# Altium footprint library E-component.PcbLib: 39 footprints (part 2 of 3)
Each footprint in its own frame and in the unit in brackets; x right, y up, seen from the top. Pads: shape width x height; smd on the part's side, far side on the other; paste and mask are expansions set on the pad; w line width, h text height; cw(c..) or ccw(c..) is an arc to the next point about the centre after c.
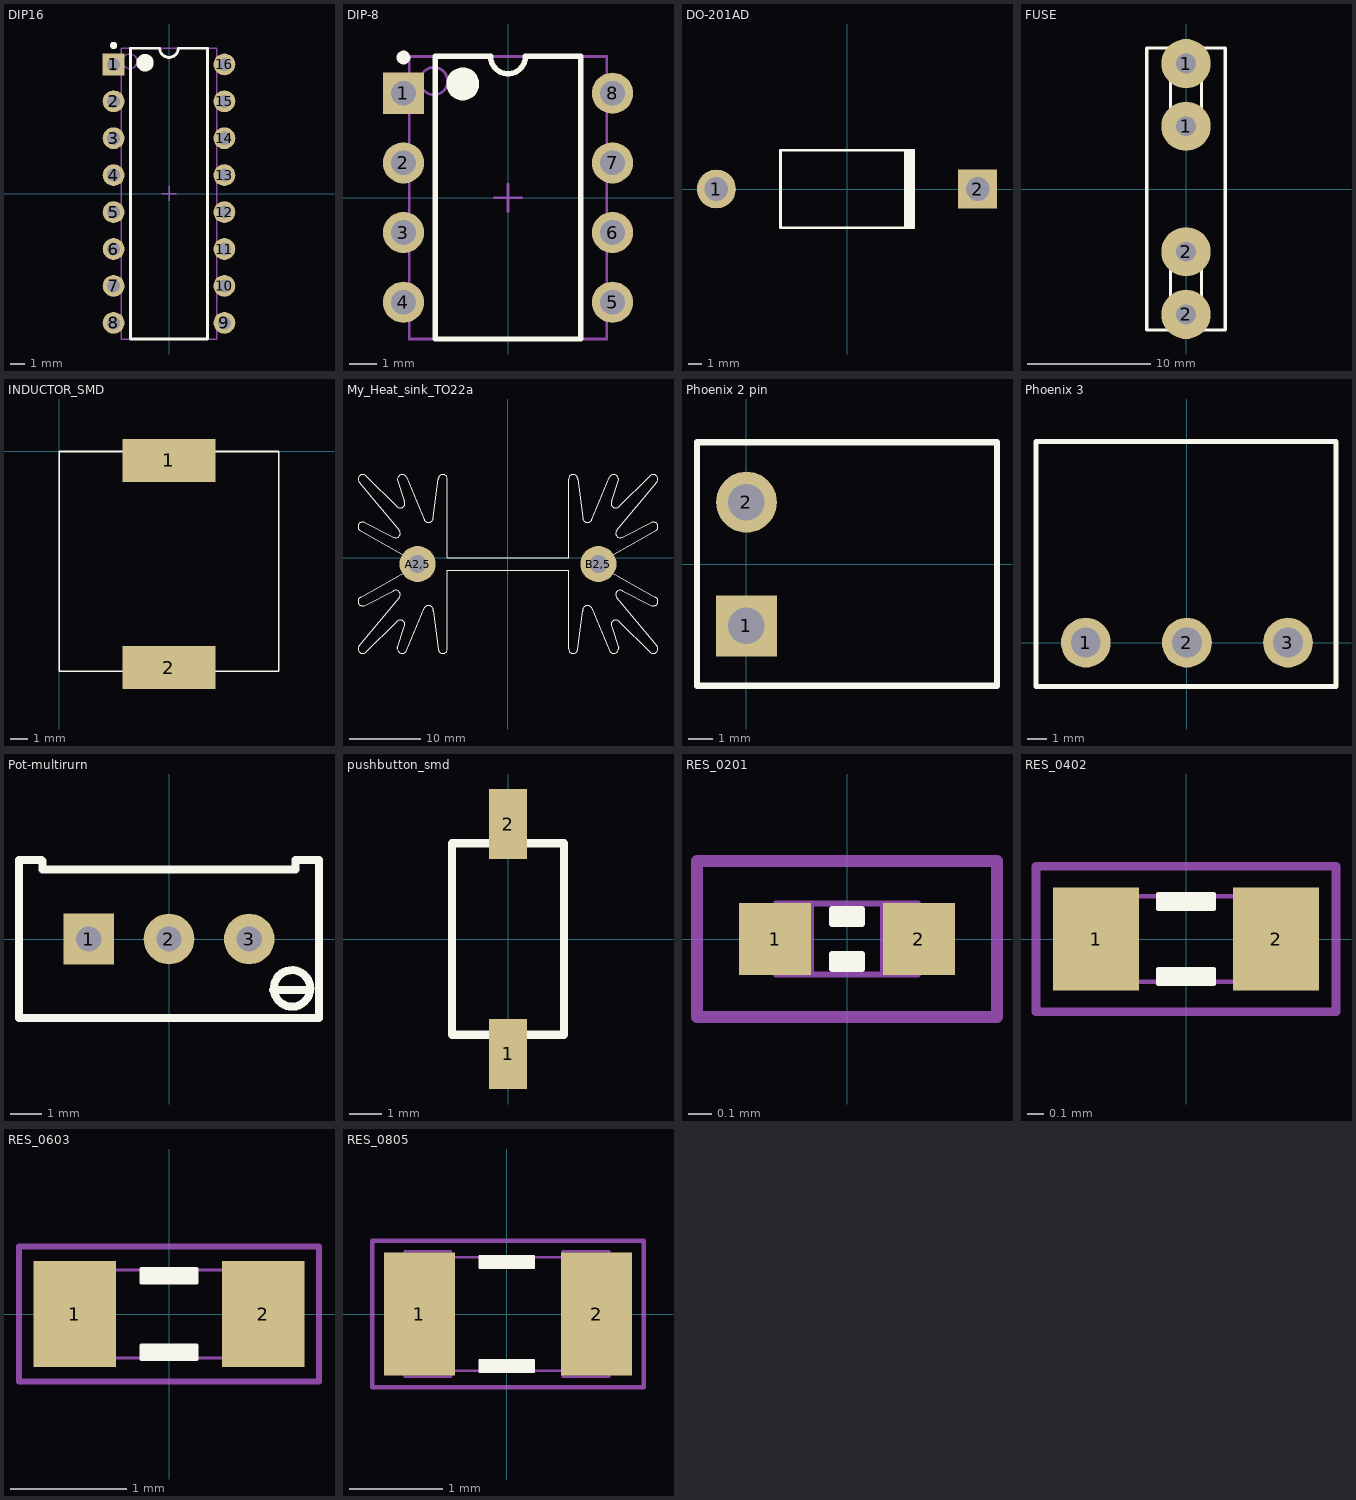
[diagram p1: the footprints below, top view; thin cyan lines are the x and y axes]

## DIP16 [mm] "DIP, 16-Leads, Row Spacing 7.62mm, Pitch 2.54mm, Body 19.6x6.3mm"
height 4.8
pads (16):
  rect 1.5x1.5 hole 0.9: 1(-3.81,8.89)
  round 1.5 hole 0.9: 2(-3.81,6.35) 3(-3.81,3.81) 4(-3.81,1.27) 5(-3.81,-1.27) 6(-3.81,-3.81) 7(-3.81,-6.35) 8(-3.81,-8.89) 9(3.81,-8.89) 10(3.81,-6.35) 11(3.81,-3.81) 12(3.81,-1.27) 13(3.81,1.27) 14(3.81,3.81) 15(3.81,6.35) 16(3.81,8.89)
Top Overlay:
  circle w0.6: c-1.65,9 r0.3
  circle w0.25: c-3.81,10.19 r0.125
  lines w0.2: -2.65,-10 2.65,-10 2.65,10 0.635,10 cw(c0,10) -0.635,10 -2.65,10 -2.65,-10
Mechanical 13:
  circle w0.1: c-2.7,9.1 r0.5
  lines w0.1: -3.3,-10 3.3,-10 3.3,10 -3.3,10 -3.3,-10
Mechanical 15:
  lines w0.1: -0.5,0 0.5,0 ; 0,-0.5 0,0.5
3D body: height 4.8, standoff 0.5, extent -3.299,-9.999 3.299,9.999

## DIP-8 [mm] "DIP; 8 Leads; Row Spacing 7.62 mm; Pitch 2.54 mm"
height 5.08
pads (8):
  rect 1.5x1.5 hole 0.9: 1(-3.81,3.81)
  round 1.5 hole 0.9: 2(-3.81,1.27) 3(-3.81,-1.27) 4(-3.81,-3.81) 5(3.81,-3.81) 6(3.81,-1.27) 7(3.81,1.27) 8(3.81,3.81)
Top Overlay:
  circle w0.6: c-1.65,4.15 r0.3
  circle w0.25: c-3.81,5.11 r0.125
  lines w0.2: -2.65,-5.15 2.65,-5.15 2.65,5.15 0.635,5.15 cw(c0,5.15) -0.635,5.15 -2.65,5.15 -2.65,-5.15
Mechanical 13:
  circle w0.1: c-2.7,4.25 r0.5
  lines w0.1: -3.6,-5.15 3.6,-5.15 3.6,5.15 -3.6,5.15 -3.6,-5.15
Mechanical 15:
  lines w0.1: -0.5,0 0.5,0 ; 0,-0.5 0,0.5
3D body: height 5.08, standoff 0, extent -3.6,-5.15 3.6,5.15

## DO-201AD [mm] "Diode, Axial; Body 9.5 x 5.6 mm (LxDia. max), Lead Dia. 1.32 mm (max)"
height 5.6
pads (2):
  round 2.8 hole 1.7: 1(-9.42,0)
  rect 2.8x2.8 hole 1.7: 2(9.42,0)
Top Overlay:
  rectangle: 4.1,-2.8 4.9,2.8
  lines w0.2: 4.8,-2.8 -4.8,-2.8 -4.8,2.8 4.8,2.8
3D body: height 7.9, standoff -1.72, extent -9.943,-2.921 10.197,2.719

## FUSE [mil]
height 27.56
pads (4):
  round 157 hole 62.99: 1(0,200) 1(0,400) 2(0,-400) 2(0,-200)
Top Overlay:
  lines w10: -125,-450 -125,450 125,450 125,-450 -125,-450 ; -50,-450 -50,-150 50,-150 50,-450 -50,-450 ; -50,150 -50,450 50,450 50,150 -50,150
3D body: height 393.29, standoff -137.8, extent -137.79,-409.45 137.8,409.45

## INDUCTOR_SMD [mm]
height 8
pads (2):
  rect 5.2x2.4 smd: 1(6.15,-0.5) 2(6.15,-12.1)
Top Overlay:
  lines w0.1: 0,-12.3 12.3,-12.3 12.3,0 0,0 0,-12.3
3D body: height 6.9, standoff 0.2, extent 0.15,-12.45 12.65,0.05

## My_Heat_sink_TO22a [mil]
height 200
pads (2):
  round 200 hole 100: A2,5(-500,-35) B2,5(500,-35)
Top Overlay:
  lines w6: -825,-491 -600,-218 ; -825,-490 ccw(c-805,-505) -785,-520 ; -825,420 cw(c-805,435) -785,450 ; -825,421 -600,148 ; -816,-220 -585,-90 -540,-65 ccw(c-500,-35) -540,-5 -585,20 -816,150 ; -815.38,-219.16 ccw(c-805,-241.99) -795,-264.99 -633,-183 ; -815.38,149.17 cw(c-805,172) -795,195 -633,113 ; -787,-522 -612,-352 ; -787,452 -612,282 ; -635.22,-184.15 cw(c-621.01,-205) -600.01,-219 ; -635.22,114.15 ccw(c-621,135) -600,149 ; -615,-355 cw(c-595,-370) -575,-385 ; -615,285 ccw(c-595,300) -575,315 ; -612,-500 -573,-381 ; -612,430 -573,311 ; -611.56,-498.57 ccw(c-585,-503) -560,-513 -464,-280 ; -611.56,428.57 cw(c-585,433) -560,443 -464,210 ; -465,-282 cw(c-440,-292) -413.44,-296.43 ; -465,212 ccw(c-440,222) -413.44,226.43 ; -413,-294 -385,-507 ; -413,224 -385,437 ; -385,-505 ccw(c-360,-505) -335,-505 -335,-70 335,-70 335,-505 ccw(c360,-505) 385,-505 ; -385,435 cw(c-360,435) -335,435 -335,0 -300,0 335,0 335,435 cw(c360,435) 385,435 ; 385,-507 413,-294 ; 385,437 413,224 ; 413.44,-296.43 cw(c440,-292) 465,-282 ; 413.44,226.43 ccw(c440,222) 465,212 ; 464,-280 560,-513 ccw(c584.99,-503) 611.55,-498.57 ; 464,210 560,443 cw(c584.99,433) 611.55,428.57 ; 573,-381 612,-500 ; 573,311 612,430 ; 575,-385 cw(c595,-370) 615,-355 ; 575,315 ccw(c595,300) 615,285 ; 599.99,-219 cw(c620.99,-205) 635.21,-184.15 ; 600,-218 825,-491 ; 600,148 825,421 ; 599.99,149 ccw(c621,135) 635.22,114.14 ; 612,-352 787,-522 ; 612,282 787,452 ; 633,-183 795,-265 ccw(c805,-241.99) 815.38,-219.16 ; 633,113 795,195 cw(c805,172) 815.38,149.17 ; 785,-520 ccw(c805,-505) 825,-490 ; 785,450 cw(c805,435) 825,420 ; 816,-220 585,-90 540,-65 cw(c500,-35) 540,-5 585,20 816,150
Mechanical 2:
  text "2,5" at 450,-150 h50
  text "2,5" at -550,-150 h50
3D body: height 2000, standoff -156, extent -823.82,-540.85 823.82,459.15

## Phoenix 2 pin [mm] "MSTB 2,5/2-G"
height 0.7
pads (2):
  rect 2.5x2.5 hole 1.5: 1(0,-2.54)
  round 2.5 hole 1.5: 2(0,2.54)
Top Overlay:
  lines w0.254: -2.032,-5 -2.032,5 10.287,5 10.287,-5 -2.032,-5
3D body: height 8.6, standoff -3.5, extent -1.808,-4.931 10.192,5.069

## Phoenix 3 [mm]
height 5.08
pads (3):
  round 2.5 hole 1.5: 1(-5.08,0) 2(0,0) 3(5.08,0)
Top Overlay:
  lines w0.254: -7.584,-2.2 7.493,-2.2 7.493,10.1 -7.584,10.1 -7.584,-2.2
3D body: height 8.6, standoff -3.5, extent -7.6,-2.1 7.64,9.9

## Pot-multirurn [mm] "multirurn"
pads (3):
  rect 1.6x1.6 hole 0.8: 1(-2.54,0)
  round 1.6 hole 0.8: 2(0,0) 3(2.54,0)
Top Overlay:
  circle w0.254: c3.895,-1.565 r0.578
  lines w0.254: -4.036,2.5 -4.75,2.5 -4.75,-2.5 4.75,-2.5 4.75,2.5 4,2.5 ; -4,2.464 -4,2.2 4,2.2 4,2.493 ; 3.289,-1.615 4.422,-1.615
3D body: height 4, standoff 0, extent -4.775,-2.5 4.725,2.525

## pushbutton_smd [mm]
height 1.524
pads (2):
  rect 1.2x2.2 smd: 1(0,-3.6) 2(0,3.6)
Top Overlay:
  lines w0.254: -1.75,-3 1.75,-3 1.75,3 -1.75,3 -1.75,-3
3D body: height 4, standoff 0, extent -1.753,-2.997 1.727,2.972

## RES_0201 [mil]
height 15.75
pads (2):
  rect 12x12 smd: 1(-12,0) 2(12,0)
Top Overlay:
  region: 2.5,-5 -2.5,-5 -2.5,-2.5 2.5,-2.5
  region: -2.5,5 2.5,5 2.5,2.5 -2.5,2.5
  lines w1: -2.5,-5 2.5,-5 2.5,-2.5 -2.5,-2.5 -2.5,-5 ; -2.5,2.5 -2.5,5 2.5,5 2.5,2.5 -2.5,2.5
Mechanical 13:
  lines w1: -6,-5.9 -6,5.91 ; 6,-5.92 6,5.89 ; -11.8,-5.9 11.82,-5.9 11.82,5.91 -11.8,5.91 -11.8,-5.9
Mechanical 15:
  lines w2: -25,-13 25,-13 25,13 -25,13 -25,-13
3D body: height 12.99, standoff 0, extent -11.8,-5.9 11.82,5.91

## RES_0402 [mil]
height 15.75
pads (2):
  rect 20x24 smd: 1(-21,0) 2(21,0)
Top Overlay:
  region: -6.5,10.5 6.5,10.5 6.5,7 -6.5,7
  region: 6.5,-10.5 -6.5,-10.5 -6.5,-7 6.5,-7
  lines w1: -6.5,-10.5 -6.5,-7 6.5,-7 6.5,-10.5 -6.5,-10.5 ; -6.5,7 6.5,7 6.5,10.5 -6.5,10.5 -6.5,7
Mechanical 13:
  lines w1: -12.8,-10 12.8,-10 ; -12.8,10 12.8,10 ; -20.67,-10.83 -20.67,10.83 -12.8,10.83 -12.8,-10.83 -20.67,-10.83 ; 12.8,-10.83 20.67,-10.83 20.67,10.83 12.8,10.83 12.8,-10.83
Mechanical 15:
  lines w2: -35,-17 -35,17 35,17 35,-17 -35,-17
3D body: height 15.75, standoff 0, extent -19.68,-9.84 19.7,9.85

## RES_0603 [mil]
height 31.5
pads (2):
  rect 28x36 smd: 1(-32,0) 2(32,0)
Top Overlay:
  region: -9.5,15.5 9.5,15.5 9.5,10.5 -9.5,10.5
  region: 9.5,-15.5 -9.5,-15.5 -9.5,-10.5 9.5,-10.5
  lines w1: -9.5,-15.5 9.5,-15.5 9.5,-10.5 -9.5,-10.5 -9.5,-15.5 ; -9.5,10.5 -9.5,15.5 9.5,15.5 9.5,10.5 -9.5,10.5
Mechanical 13:
  lines w1: -19,-15 19,-15 ; -18.99,15 19.01,15 ; -33,-17 -19,-17 -19,17 -33,17 -33,-17 ; 19.01,-17 19.01,17 33.01,17 33.01,-17 19.01,-17
Mechanical 15:
  lines w2: -51,-23 51,-23 51,23 -51,23 -51,-23
3D body: height 19.68, standoff 0, extent -31.49,-15.74 31.51,15.75

## RES_0805 [mil]
height 27.56
pads (2):
  rect 30x52 smd: 1(-37,0) 2(38,0)
Top Overlay:
  region: -11.5,24.5 11.5,24.5 11.5,19.5 -11.5,19.5
  region: 11.5,-24.5 -11.5,-24.5 -11.5,-19.5 11.5,-19.5
  lines w1: -11.5,-24.5 -11.5,-19.5 11.5,-19.5 11.5,-24.5 -11.5,-24.5 ; -11.5,19.5 11.5,19.5 11.5,24.5 -11.5,24.5 -11.5,19.5
Mechanical 13:
  lines w1: -23.62,-24 23.62,-24 ; -23.62,24 23.62,24 ; -43.31,-26.57 -43.31,26.57 -23.62,26.57 -23.62,-26.57 -43.31,-26.57 ; 23.62,-26.57 43.31,-26.57 43.31,26.57 23.62,26.57 23.62,-26.57
Mechanical 15:
  lines w2: -57,-31 58,-31 58,31 -57,31 -57,-31
3D body: height 23.62, standoff 0, extent -39.36,-23.62 39.38,23.63

## RES_1206 [mm]
height 0.7
3D body: height 0.65, standoff 0, extent -1.6,-0.8 1.6,0.8

## RES_1210 [mm]
height 0.7
3D body: height 0.65, standoff 0, extent -1.6,-1.25 1.6,1.25